# Altium schematic symbol library MDM-15.Schlib: 1 symbol
Pins are listed as number, name and electrical type; pins without a type are passive.

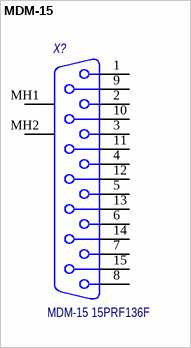
[diagram p0: symbol MDM-15]

## MDM-15
designator X?  Наименование: MDM-15 15PRF136F  (hidden comment: MDM-15)
Receptacle Assembly, 15 Position, Right Angle; Назначение: Соеденитель угловой на плату
footprint MDM-15
pins: 1, 2, 3, 4, 5, 6, 7, 8, 9, 10, 11, 12, 13, 14, 15, MH1, MH2